# Altium footprint library Connector_Molex.PcbLib: 815 footprints (part 18 of 51)
Each footprint in its own frame and in the unit in brackets; x right, y up, seen from the top. Pads: shape width x height; smd on the part's side, far side on the other; paste and mask are expansions set on the pad; w line width, h text height; cw(c..) or ccw(c..) is an arc to the next point about the centre after c.
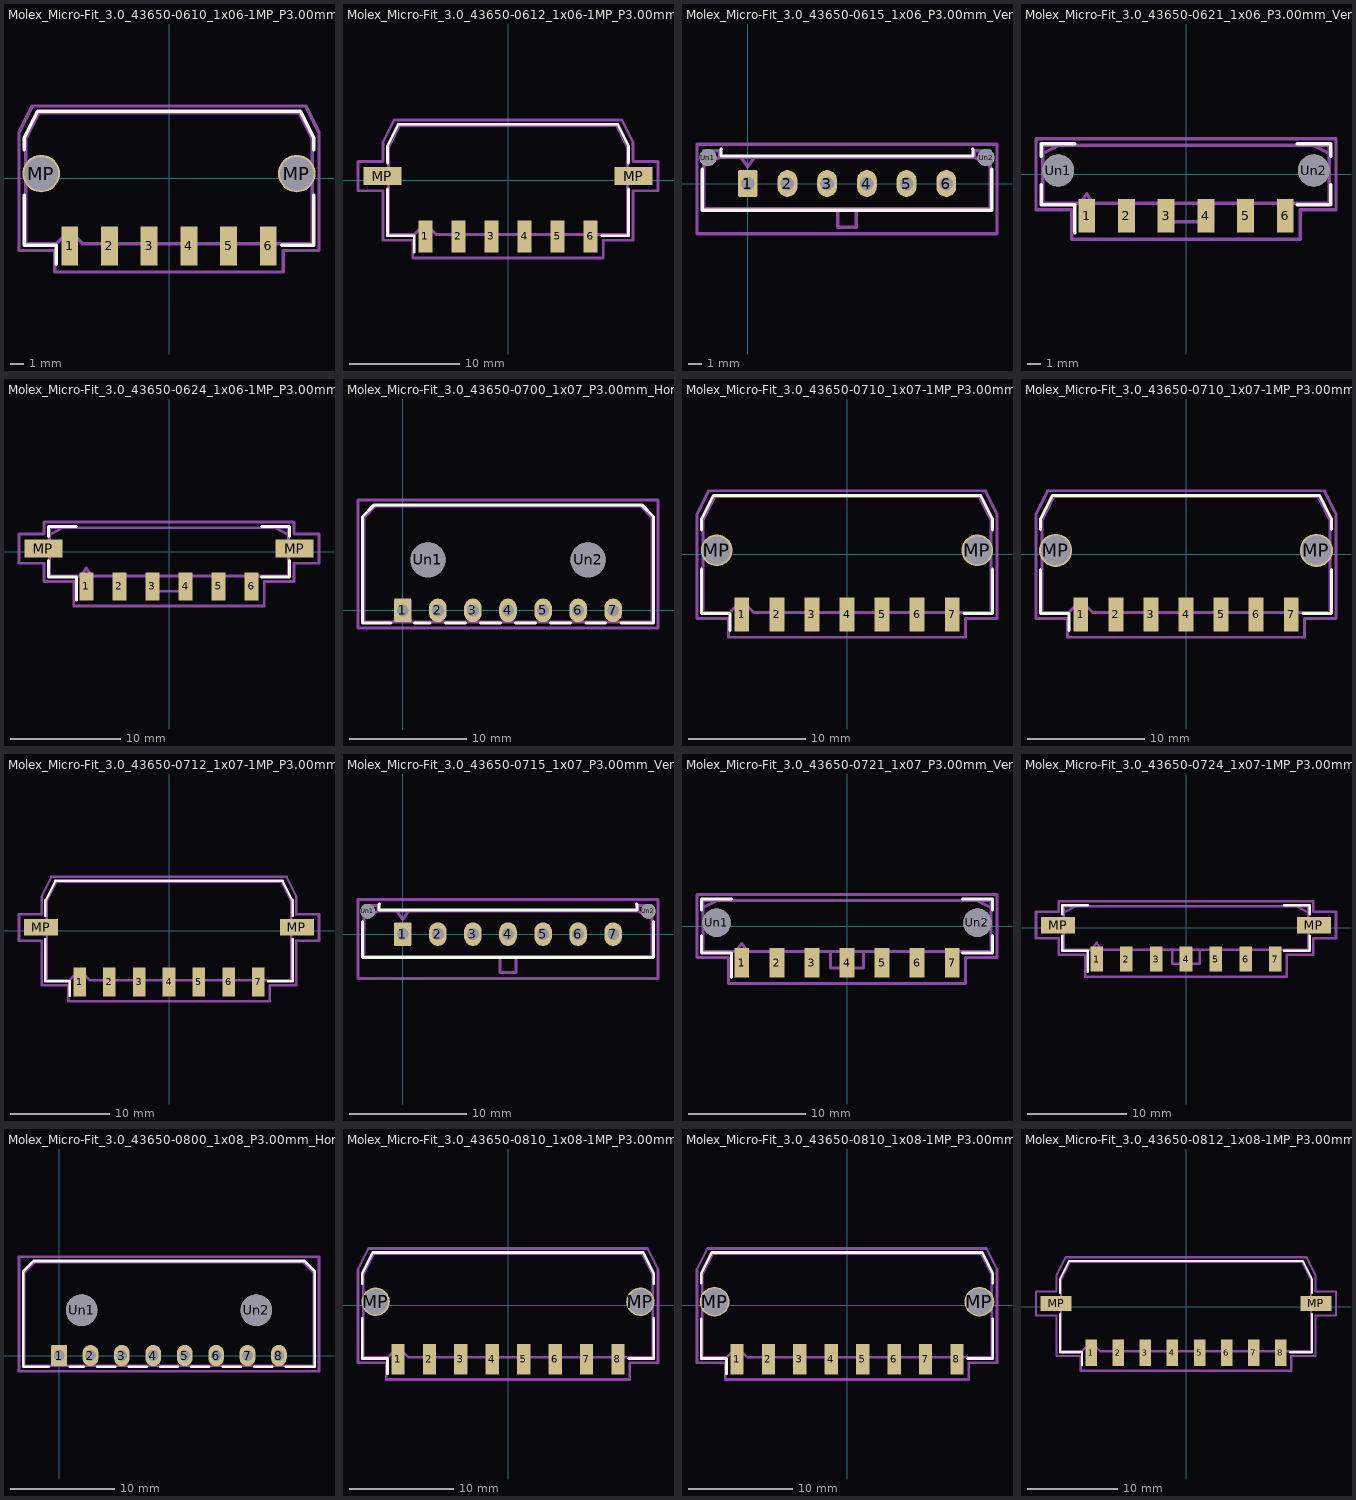
[diagram p17: the footprints below, top view; thin cyan lines are the x and y axes]

## Molex_Micro-Fit_3.0_43650-0610_1x06-1MP_P3.00mm_Horizontal_PnP [mm]
pads (8):
  rect 1.27x2.92 smd: 1(-7.5,-5.12) 2(-4.5,-5.12) 3(-1.5,-5.12) 4(1.5,-5.12) 5(4.5,-5.12) 6(7.5,-5.12)
  round 2.84 hole 2.54: MP(-9.65,0.35) MP(9.65,0.35)
F.SilkS:
  lines w0.254: -10.935,-1.29 -10.935,-5.06 -8.505,-5.06 -8.505,-6.52 ; -10.935,2.14 -10.935,3.06 -9.935,5.06 0,5.06 9.935,5.06 10.935,3.06 10.935,2.14 ; 8.505,-5.06 10.935,-5.06 10.935,-1.29
Top Assembly:
  lines w0.254: -10.825,-4.95 -8.5,-4.95 -7.5,-3.95 -6.5,-4.95 0,-4.95 8.135,-4.95 10.825,-4.95 10.825,1.77 10.825,2.95 9.825,4.95 0,4.95 -9.825,4.95 -10.825,2.95 -10.825,1.77 -10.825,-4.95
  text "'.Designator'" at -4.047,3.41 h1
Top Courtyard:
  lines w0.254: -11.33,-5.46 -8.64,-5.46 -8.64,-7.08 0,-7.08 8.64,-7.08 8.64,-5.46 11.33,-5.46 11.33,2.27 11.33,3.45 10.33,5.45 0,5.45 -10.33,5.45 -11.33,3.45 -11.33,2.27 -11.33,-5.46
Top Designator:
  text ".Designator" at -7.618,-1.323 h1.52

## Molex_Micro-Fit_3.0_43650-0612_1x06-1MP_P3.00mm_Horizontal [mm]
pads (8):
  rect 1.27x2.92 smd: 1(-7.5,-5.12) 2(-4.5,-5.12) 3(-1.5,-5.12) 4(1.5,-5.12) 5(4.5,-5.12) 6(7.5,-5.12)
  rect 3.43x1.65 smd: MP(-11.385,0.35) MP(11.385,0.35)
F.SilkS:
  lines w0.254: -10.935,-0.845 -10.935,-5.06 -8.505,-5.06 -8.505,-6.52 ; -10.935,1.545 -10.935,3.06 -9.935,5.06 0,5.06 9.935,5.06 10.935,3.06 10.935,1.545 ; 8.505,-5.06 10.935,-5.06 10.935,-0.845
Top Assembly:
  lines w0.254: -10.825,-4.95 -8.5,-4.95 -7.5,-3.95 -6.5,-4.95 0,-4.95 8.135,-4.95 10.825,-4.95 10.825,1.175 10.825,2.95 9.825,4.95 0,4.95 -9.825,4.95 -10.825,2.95 -10.825,1.175 -10.825,-4.95
  text "'.Designator'" at -4.047,3.41 h1
Top Courtyard:
  lines w0.254: -13.6,-0.98 -11.33,-0.98 -11.33,-5.46 -8.64,-5.46 -8.64,-7.08 0,-7.08 8.64,-7.08 8.64,-5.46 11.33,-5.46 11.33,-0.98 13.6,-0.98 13.6,1.68 11.33,1.68 11.33,3.45 10.33,5.45 0,5.45 -10.33,5.45 -11.33,3.45 -11.33,1.68 -13.6,1.68 -13.6,-0.98
Top Designator:
  text ".Designator" at -7.618,-1.323 h1.52

## Molex_Micro-Fit_3.0_43650-0615_1x06_P3.00mm_Vertical [mm]
pads (8):
  rrect17% 1.5x2.02 hole 1.02: 1(0,0)
  rrect100% 1.5x2.02 hole 1.02: 2(3,0) 3(6,0) 4(9,0) 5(12,0) 6(15,0)
  round 1.27 hole 1.27: Un1(-3,1.96) Un2(18,1.96)
F.SilkS:
  lines w0.254: -3.435,1.065 -3.435,-2.01 18.435,-2.01 18.435,1.065 ; -1.995,2.58 -2.015,2.58 -2.015,2.08 17.015,2.08 17.015,2.58 16.995,2.58
Top Assembly:
  lines w0.254: -3.325,1.34 -2.125,1.97 ; -0.5,1.97 0,1.263 0.5,1.97 ; 6.8,-1.9 6.8,-3.3 8.2,-3.3 8.2,-1.9 ; 18.325,1.34 17.125,1.97 ; -2.125,1.97 17.125,1.97 ; -2.125,1.97 -2.125,2.47 -3.325,2.47 -3.325,-1.9 18.325,-1.9 18.325,2.47 17.125,2.47 17.125,1.97
  text "'.Designator'" at 3.453,-2.04 h1
Top Courtyard:
  lines w0.254: -3.83,-3.8 18.83,-3.8 18.83,2.97 -3.83,2.97 -3.83,-3.8
Top Designator:
  text ".Designator" at -0.118,-0.923 h1.52

## Molex_Micro-Fit_3.0_43650-0621_1x06_P3.00mm_Vertical [mm]
pads (8):
  rect 1.27x2.54 smd: 1(-7.5,-3.135) 2(-4.5,-3.135) 3(-1.5,-3.135) 4(1.5,-3.135) 5(4.5,-3.135) 6(7.5,-3.135)
  round 2.41 hole 2.41: Un1(-9.65,0.285) Un2(9.65,0.285)
F.SilkS:
  lines w0.254: -10.935,-0.8 -10.935,-2.295 -8.395,-2.295 -8.395,-4.405 ; -10.935,1.37 -10.935,2.295 -9.515,2.295 -8.395,2.295 ; 8.395,-2.295 10.935,-2.295 10.935,-0.8 ; 8.395,2.295 9.515,2.295 10.935,2.295 10.935,1.37
Top Assembly:
  lines w0.254: -10.825,1.555 -9.625,2.185 ; -8,-2.185 -7.5,-1.478 -7,-2.185 ; -1.4,-2.185 -1.4,-3.585 1.4,-3.585 1.4,-2.185 ; 10.825,1.555 9.625,2.185 ; -9.625,2.185 9.625,2.185 ; -9.625,2.185 -10.825,2.185 -10.825,-2.185 10.825,-2.185 10.825,2.185 9.625,2.185
  text "'.Designator'" at -4.047,-2.32 h1
Top Courtyard:
  lines w0.254: -11.33,-2.69 -8.64,-2.69 -8.64,-4.91 0,-4.91 8.64,-4.91 8.64,-2.69 11.33,-2.69 11.33,2.69 8.64,2.69 0,2.69 -8.64,2.69 -11.33,2.69 -11.33,-2.69
Top Designator:
  text ".Designator" at -7.618,-1.618 h1.52

## Molex_Micro-Fit_3.0_43650-0624_1x06-1MP_P3.00mm_Vertical [mm]
pads (8):
  rect 1.27x2.54 smd: 1(-7.5,-3.135) 2(-4.5,-3.135) 3(-1.5,-3.135) 4(1.5,-3.135) 5(4.5,-3.135) 6(7.5,-3.135)
  rect 3.43x1.65 smd: MP(-11.385,0.285) MP(11.385,0.285)
F.SilkS:
  lines w0.254: -10.935,-0.8 -10.935,-2.295 -8.395,-2.295 -8.395,-4.405 ; -10.935,1.37 -10.935,2.295 -9.515,2.295 -8.395,2.295 ; 8.395,-2.295 10.935,-2.295 10.935,-0.8 ; 8.395,2.295 9.515,2.295 10.935,2.295 10.935,1.37
Top Assembly:
  lines w0.254: -10.825,1.555 -9.625,2.185 ; -8,-2.185 -7.5,-1.478 -7,-2.185 ; -1.4,-2.185 -1.4,-3.585 1.4,-3.585 1.4,-2.185 ; 10.825,1.555 9.625,2.185 ; -9.625,2.185 9.625,2.185 ; -9.625,2.185 -10.825,2.185 -10.825,-2.185 10.825,-2.185 10.825,2.185 9.625,2.185
  text "'.Designator'" at -4.047,-2.32 h1
Top Courtyard:
  lines w0.254: -13.6,-1.04 -11.33,-1.04 -11.33,-2.69 -8.64,-2.69 -8.64,-4.91 0,-4.91 8.64,-4.91 8.64,-2.69 11.33,-2.69 11.33,-1.04 13.6,-1.04 13.6,1.61 11.33,1.61 11.33,2.69 8.64,2.69 0,2.69 -8.64,2.69 -11.33,2.69 -11.33,1.61 -13.6,1.61 -13.6,-1.04
Top Designator:
  text ".Designator" at -7.618,-1.618 h1.52

## Molex_Micro-Fit_3.0_43650-0700_1x07_P3.00mm_Horizontal [mm]
pads (9):
  rrect17% 1.5x2.02 hole 1.02: 1(0,0)
  rrect100% 1.5x2.02 hole 1.02: 2(3,0) 3(6,0) 4(9,0) 5(12,0) 6(15,0) 7(18,0)
  round 3 hole 3: Un1(2.15,4.32) Un2(15.85,4.32)
F.SilkS:
  lines w0.254: -1.01,-1.09 -3.435,-1.09 -3.435,8.03 -2.435,9.03 20.435,9.03 21.435,8.03 21.435,-1.09 18.652,-1.09 ; 1.01,-1.09 2.348,-1.09 ; 3.652,-1.09 5.348,-1.09 ; 6.652,-1.09 8.348,-1.09 ; 9.652,-1.09 11.348,-1.09 ; 12.652,-1.09 14.348,-1.09 ; 15.652,-1.09 17.348,-1.09
Top Assembly:
  lines w0.254: -0.75,-0.98 0,0 0.75,-0.98 ; -3.325,-0.98 21.325,-0.98 21.325,7.92 20.325,8.92 -2.325,8.92 -3.325,7.92 -3.325,-0.98
  text "'.Designator'" at 4.953,7.38 h1
Top Courtyard:
  lines w0.254: -3.83,-1.49 21.83,-1.49 21.83,9.42 -3.83,9.42 -3.83,-1.49
Top Designator:
  text ".Designator" at 1.382,3.457 h1.52

## Molex_Micro-Fit_3.0_43650-0710_1x07-1MP_P3.00mm_Horizontal [mm]
pads (9):
  rect 1.27x2.92 smd: 1(-9,-5.12) 2(-6,-5.12) 3(-3,-5.12) 4(0,-5.12) 5(3,-5.12) 6(6,-5.12) 7(9,-5.12)
  round 2.71 hole 2.41: MP(-11.15,0.35) MP(11.15,0.35)
F.SilkS:
  lines w0.254: -12.435,-1.225 -12.435,-5.06 -10.005,-5.06 -10.005,-6.52 ; -12.435,2.075 -12.435,3.06 -11.435,5.06 0,5.06 11.435,5.06 12.435,3.06 12.435,2.075 ; 10.005,-5.06 12.435,-5.06 12.435,-1.225
Top Assembly:
  lines w0.254: -12.325,-4.95 -10,-4.95 -9,-3.95 -8,-4.95 0,-4.95 9.635,-4.95 12.325,-4.95 12.325,1.705 12.325,2.95 11.325,4.95 0,4.95 -11.325,4.95 -12.325,2.95 -12.325,1.705 -12.325,-4.95
  text "'.Designator'" at -4.047,3.41 h1
Top Courtyard:
  lines w0.254: -12.83,-5.46 -10.14,-5.46 -10.14,-7.08 0,-7.08 10.14,-7.08 10.14,-5.46 12.83,-5.46 12.83,2.21 12.83,3.45 11.83,5.45 0,5.45 -11.83,5.45 -12.83,3.45 -12.83,2.21 -12.83,-5.46
Top Designator:
  text ".Designator" at -7.618,-1.323 h1.52

## Molex_Micro-Fit_3.0_43650-0710_1x07-1MP_P3.00mm_Horizontal_PnP [mm]
pads (9):
  rect 1.27x2.92 smd: 1(-9,-5.12) 2(-6,-5.12) 3(-3,-5.12) 4(0,-5.12) 5(3,-5.12) 6(6,-5.12) 7(9,-5.12)
  round 2.84 hole 2.54: MP(-11.15,0.35) MP(11.15,0.35)
F.SilkS:
  lines w0.254: -12.435,-1.29 -12.435,-5.06 -10.005,-5.06 -10.005,-6.52 ; -12.435,2.14 -12.435,3.06 -11.435,5.06 0,5.06 11.435,5.06 12.435,3.06 12.435,2.14 ; 10.005,-5.06 12.435,-5.06 12.435,-1.29
Top Assembly:
  lines w0.254: -12.325,-4.95 -10,-4.95 -9,-3.95 -8,-4.95 0,-4.95 9.635,-4.95 12.325,-4.95 12.325,1.77 12.325,2.95 11.325,4.95 0,4.95 -11.325,4.95 -12.325,2.95 -12.325,1.77 -12.325,-4.95
  text "'.Designator'" at -4.047,3.41 h1
Top Courtyard:
  lines w0.254: -12.83,-5.46 -10.14,-5.46 -10.14,-7.08 0,-7.08 10.14,-7.08 10.14,-5.46 12.83,-5.46 12.83,2.27 12.83,3.45 11.83,5.45 0,5.45 -11.83,5.45 -12.83,3.45 -12.83,2.27 -12.83,-5.46
Top Designator:
  text ".Designator" at -7.618,-1.323 h1.52

## Molex_Micro-Fit_3.0_43650-0712_1x07-1MP_P3.00mm_Horizontal [mm]
pads (9):
  rect 1.27x2.92 smd: 1(-9,-5.12) 2(-6,-5.12) 3(-3,-5.12) 4(0,-5.12) 5(3,-5.12) 6(6,-5.12) 7(9,-5.12)
  rect 3.43x1.65 smd: MP(-12.885,0.35) MP(12.885,0.35)
F.SilkS:
  lines w0.254: -12.435,-0.845 -12.435,-5.06 -10.005,-5.06 -10.005,-6.52 ; -12.435,1.545 -12.435,3.06 -11.435,5.06 0,5.06 11.435,5.06 12.435,3.06 12.435,1.545 ; 10.005,-5.06 12.435,-5.06 12.435,-0.845
Top Assembly:
  lines w0.254: -12.325,-4.95 -10,-4.95 -9,-3.95 -8,-4.95 0,-4.95 9.635,-4.95 12.325,-4.95 12.325,1.175 12.325,2.95 11.325,4.95 0,4.95 -11.325,4.95 -12.325,2.95 -12.325,1.175 -12.325,-4.95
  text "'.Designator'" at -4.047,3.41 h1
Top Courtyard:
  lines w0.254: -15.1,-0.98 -12.83,-0.98 -12.83,-5.46 -10.14,-5.46 -10.14,-7.08 0,-7.08 10.14,-7.08 10.14,-5.46 12.83,-5.46 12.83,-0.98 15.1,-0.98 15.1,1.68 12.83,1.68 12.83,3.45 11.83,5.45 0,5.45 -11.83,5.45 -12.83,3.45 -12.83,1.68 -15.1,1.68 -15.1,-0.98
Top Designator:
  text ".Designator" at -7.618,-1.323 h1.52

## Molex_Micro-Fit_3.0_43650-0715_1x07_P3.00mm_Vertical [mm]
pads (9):
  rrect17% 1.5x2.02 hole 1.02: 1(0,0)
  rrect100% 1.5x2.02 hole 1.02: 2(3,0) 3(6,0) 4(9,0) 5(12,0) 6(15,0) 7(18,0)
  round 1.27 hole 1.27: Un1(-3,1.96) Un2(21,1.96)
F.SilkS:
  lines w0.254: -3.435,1.065 -3.435,-2.01 21.435,-2.01 21.435,1.065 ; -1.995,2.58 -2.015,2.58 -2.015,2.08 20.015,2.08 20.015,2.58 19.995,2.58
Top Assembly:
  lines w0.254: -3.325,1.34 -2.125,1.97 ; -0.5,1.97 0,1.263 0.5,1.97 ; 8.3,-1.9 8.3,-3.3 9.7,-3.3 9.7,-1.9 ; 21.325,1.34 20.125,1.97 ; -2.125,1.97 20.125,1.97 ; -2.125,1.97 -2.125,2.47 -3.325,2.47 -3.325,-1.9 21.325,-1.9 21.325,2.47 20.125,2.47 20.125,1.97
  text "'.Designator'" at 4.953,-2.04 h1
Top Courtyard:
  lines w0.254: -3.83,-3.8 21.83,-3.8 21.83,2.97 -3.83,2.97 -3.83,-3.8
Top Designator:
  text ".Designator" at 1.382,-0.923 h1.52

## Molex_Micro-Fit_3.0_43650-0721_1x07_P3.00mm_Vertical [mm]
pads (9):
  rect 1.27x2.54 smd: 1(-9,-3.135) 2(-6,-3.135) 3(-3,-3.135) 4(0,-3.135) 5(3,-3.135) 6(6,-3.135) 7(9,-3.135)
  round 2.41 hole 2.41: Un1(-11.15,0.285) Un2(11.15,0.285)
F.SilkS:
  lines w0.254: -12.435,-0.8 -12.435,-2.295 -9.895,-2.295 -9.895,-4.405 ; -12.435,1.37 -12.435,2.295 -11.015,2.295 -9.895,2.295 ; 9.895,-2.295 12.435,-2.295 12.435,-0.8 ; 9.895,2.295 11.015,2.295 12.435,2.295 12.435,1.37
Top Assembly:
  lines w0.254: -12.325,1.555 -11.125,2.185 ; -9.5,-2.185 -9,-1.478 -8.5,-2.185 ; -1.4,-2.185 -1.4,-3.585 1.4,-3.585 1.4,-2.185 ; 12.325,1.555 11.125,2.185 ; -11.125,2.185 11.125,2.185 ; -11.125,2.185 -12.325,2.185 -12.325,-2.185 12.325,-2.185 12.325,2.185 11.125,2.185
  text "'.Designator'" at -4.047,-2.32 h1
Top Courtyard:
  lines w0.254: -12.83,-2.69 -10.14,-2.69 -10.14,-4.91 0,-4.91 10.14,-4.91 10.14,-2.69 12.83,-2.69 12.83,2.69 10.14,2.69 0,2.69 -10.14,2.69 -12.83,2.69 -12.83,-2.69
Top Designator:
  text ".Designator" at -7.618,-1.618 h1.52

## Molex_Micro-Fit_3.0_43650-0724_1x07-1MP_P3.00mm_Vertical [mm]
pads (9):
  rect 1.27x2.54 smd: 1(-9,-3.135) 2(-6,-3.135) 3(-3,-3.135) 4(0,-3.135) 5(3,-3.135) 6(6,-3.135) 7(9,-3.135)
  rect 3.43x1.65 smd: MP(-12.885,0.285) MP(12.885,0.285)
F.SilkS:
  lines w0.254: -12.435,-0.8 -12.435,-2.295 -9.895,-2.295 -9.895,-4.405 ; -12.435,1.37 -12.435,2.295 -11.015,2.295 -9.895,2.295 ; 9.895,-2.295 12.435,-2.295 12.435,-0.8 ; 9.895,2.295 11.015,2.295 12.435,2.295 12.435,1.37
Top Assembly:
  lines w0.254: -12.325,1.555 -11.125,2.185 ; -9.5,-2.185 -9,-1.478 -8.5,-2.185 ; -1.4,-2.185 -1.4,-3.585 1.4,-3.585 1.4,-2.185 ; 12.325,1.555 11.125,2.185 ; -11.125,2.185 11.125,2.185 ; -11.125,2.185 -12.325,2.185 -12.325,-2.185 12.325,-2.185 12.325,2.185 11.125,2.185
  text "'.Designator'" at -4.047,-2.32 h1
Top Courtyard:
  lines w0.254: -15.1,-1.04 -12.83,-1.04 -12.83,-2.69 -10.14,-2.69 -10.14,-4.91 0,-4.91 10.14,-4.91 10.14,-2.69 12.83,-2.69 12.83,-1.04 15.1,-1.04 15.1,1.61 12.83,1.61 12.83,2.69 10.14,2.69 0,2.69 -10.14,2.69 -12.83,2.69 -12.83,1.61 -15.1,1.61 -15.1,-1.04
Top Designator:
  text ".Designator" at -7.618,-1.618 h1.52

## Molex_Micro-Fit_3.0_43650-0800_1x08_P3.00mm_Horizontal [mm]
pads (10):
  rrect17% 1.5x2.02 hole 1.02: 1(0,0)
  rrect100% 1.5x2.02 hole 1.02: 2(3,0) 3(6,0) 4(9,0) 5(12,0) 6(15,0) 7(18,0) 8(21,0)
  round 3 hole 3: Un1(2.15,4.32) Un2(18.85,4.32)
F.SilkS:
  lines w0.254: -1.01,-1.09 -3.435,-1.09 -3.435,8.03 -2.435,9.03 23.435,9.03 24.435,8.03 24.435,-1.09 21.652,-1.09 ; 1.01,-1.09 2.348,-1.09 ; 3.652,-1.09 5.348,-1.09 ; 6.652,-1.09 8.348,-1.09 ; 9.652,-1.09 11.348,-1.09 ; 12.652,-1.09 14.348,-1.09 ; 15.652,-1.09 17.348,-1.09 ; 18.652,-1.09 20.348,-1.09
Top Assembly:
  lines w0.254: -0.75,-0.98 0,0 0.75,-0.98 ; -3.325,-0.98 24.325,-0.98 24.325,7.92 23.325,8.92 -2.325,8.92 -3.325,7.92 -3.325,-0.98
  text "'.Designator'" at 6.453,7.38 h1
Top Courtyard:
  lines w0.254: -3.83,-1.49 24.83,-1.49 24.83,9.42 -3.83,9.42 -3.83,-1.49
Top Designator:
  text ".Designator" at 2.882,3.457 h1.52

## Molex_Micro-Fit_3.0_43650-0810_1x08-1MP_P3.00mm_Horizontal [mm]
pads (10):
  rect 1.27x2.92 smd: 1(-10.5,-5.12) 2(-7.5,-5.12) 3(-4.5,-5.12) 4(-1.5,-5.12) 5(1.5,-5.12) 6(4.5,-5.12) 7(7.5,-5.12) 8(10.5,-5.12)
  round 2.71 hole 2.41: MP(-12.65,0.35) MP(12.65,0.35)
F.SilkS:
  lines w0.254: -13.935,-1.225 -13.935,-5.06 -11.505,-5.06 -11.505,-6.52 ; -13.935,2.075 -13.935,3.06 -12.935,5.06 0,5.06 12.935,5.06 13.935,3.06 13.935,2.075 ; 11.505,-5.06 13.935,-5.06 13.935,-1.225
Top Assembly:
  lines w0.254: -13.825,-4.95 -11.5,-4.95 -10.5,-3.95 -9.5,-4.95 0,-4.95 11.135,-4.95 13.825,-4.95 13.825,1.705 13.825,2.95 12.825,4.95 0,4.95 -12.825,4.95 -13.825,2.95 -13.825,1.705 -13.825,-4.95
  text "'.Designator'" at -4.047,3.41 h1
Top Courtyard:
  lines w0.254: -14.33,-5.46 -11.64,-5.46 -11.64,-7.08 0,-7.08 11.64,-7.08 11.64,-5.46 14.33,-5.46 14.33,2.21 14.33,3.45 13.33,5.45 0,5.45 -13.33,5.45 -14.33,3.45 -14.33,2.21 -14.33,-5.46
Top Designator:
  text ".Designator" at -7.618,-1.323 h1.52

## Molex_Micro-Fit_3.0_43650-0810_1x08-1MP_P3.00mm_Horizontal_PnP [mm]
pads (10):
  rect 1.27x2.92 smd: 1(-10.5,-5.12) 2(-7.5,-5.12) 3(-4.5,-5.12) 4(-1.5,-5.12) 5(1.5,-5.12) 6(4.5,-5.12) 7(7.5,-5.12) 8(10.5,-5.12)
  round 2.84 hole 2.54: MP(-12.65,0.35) MP(12.65,0.35)
F.SilkS:
  lines w0.254: -13.935,-1.29 -13.935,-5.06 -11.505,-5.06 -11.505,-6.52 ; -13.935,2.14 -13.935,3.06 -12.935,5.06 0,5.06 12.935,5.06 13.935,3.06 13.935,2.14 ; 11.505,-5.06 13.935,-5.06 13.935,-1.29
Top Assembly:
  lines w0.254: -13.825,-4.95 -11.5,-4.95 -10.5,-3.95 -9.5,-4.95 0,-4.95 11.135,-4.95 13.825,-4.95 13.825,1.77 13.825,2.95 12.825,4.95 0,4.95 -12.825,4.95 -13.825,2.95 -13.825,1.77 -13.825,-4.95
  text "'.Designator'" at -4.047,3.41 h1
Top Courtyard:
  lines w0.254: -14.33,-5.46 -11.64,-5.46 -11.64,-7.08 0,-7.08 11.64,-7.08 11.64,-5.46 14.33,-5.46 14.33,2.27 14.33,3.45 13.33,5.45 0,5.45 -13.33,5.45 -14.33,3.45 -14.33,2.27 -14.33,-5.46
Top Designator:
  text ".Designator" at -7.618,-1.323 h1.52

## Molex_Micro-Fit_3.0_43650-0812_1x08-1MP_P3.00mm_Horizontal [mm]
pads (10):
  rect 1.27x2.92 smd: 1(-10.5,-5.12) 2(-7.5,-5.12) 3(-4.5,-5.12) 4(-1.5,-5.12) 5(1.5,-5.12) 6(4.5,-5.12) 7(7.5,-5.12) 8(10.5,-5.12)
  rect 3.43x1.65 smd: MP(-14.385,0.35) MP(14.385,0.35)
F.SilkS:
  lines w0.254: -13.935,-0.845 -13.935,-5.06 -11.505,-5.06 -11.505,-6.52 ; -13.935,1.545 -13.935,3.06 -12.935,5.06 0,5.06 12.935,5.06 13.935,3.06 13.935,1.545 ; 11.505,-5.06 13.935,-5.06 13.935,-0.845
Top Assembly:
  lines w0.254: -13.825,-4.95 -11.5,-4.95 -10.5,-3.95 -9.5,-4.95 0,-4.95 11.135,-4.95 13.825,-4.95 13.825,1.175 13.825,2.95 12.825,4.95 0,4.95 -12.825,4.95 -13.825,2.95 -13.825,1.175 -13.825,-4.95
  text "'.Designator'" at -4.047,3.41 h1
Top Courtyard:
  lines w0.254: -16.6,-0.98 -14.33,-0.98 -14.33,-5.46 -11.64,-5.46 -11.64,-7.08 0,-7.08 11.64,-7.08 11.64,-5.46 14.33,-5.46 14.33,-0.98 16.6,-0.98 16.6,1.68 14.33,1.68 14.33,3.45 13.33,5.45 0,5.45 -13.33,5.45 -14.33,3.45 -14.33,1.68 -16.6,1.68 -16.6,-0.98
Top Designator:
  text ".Designator" at -7.618,-1.323 h1.52